# EAGLE library part SWITCHED_STEREO (library mb3_jacks)
Stereo TRS Jack for switched applications Marshall style (PCB Mount): http://smallbear-electronics.mybigcommerce.com/1-4-enclosed-nmj6hcd2/
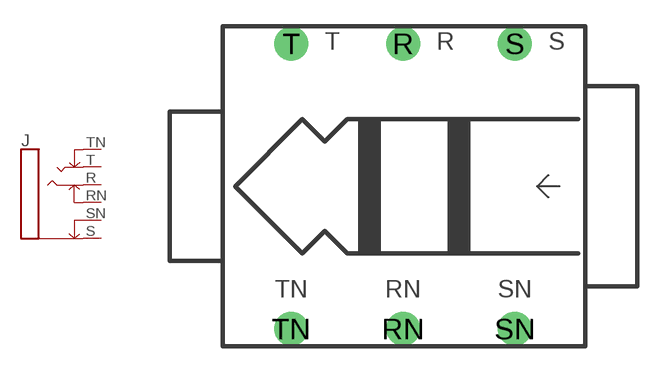
[diagram p0: symbol with the pads of TRS_SW; footprint TRS_SW]

Designator prefix J

## SWITCHED_STEREO  [TRS_SW]
R  R  pas
RN  RN  pas
S  S  pas
SN  SN  pas
T  T  pas
TN  TN  pas

## Footprint TRS_SW (pad centres in mm)
drill 1 pad 1.93: R 0,8.115; RN 0,-8.115; S 6.35,8.115; SN 6.35,-8.115; T -6.35,8.115; TN -6.35,-8.115